# Altium schematic symbol library baseboard.SCHLIB: 43 symbols
Pins are listed as number, name and electrical type; pins without a type are passive.

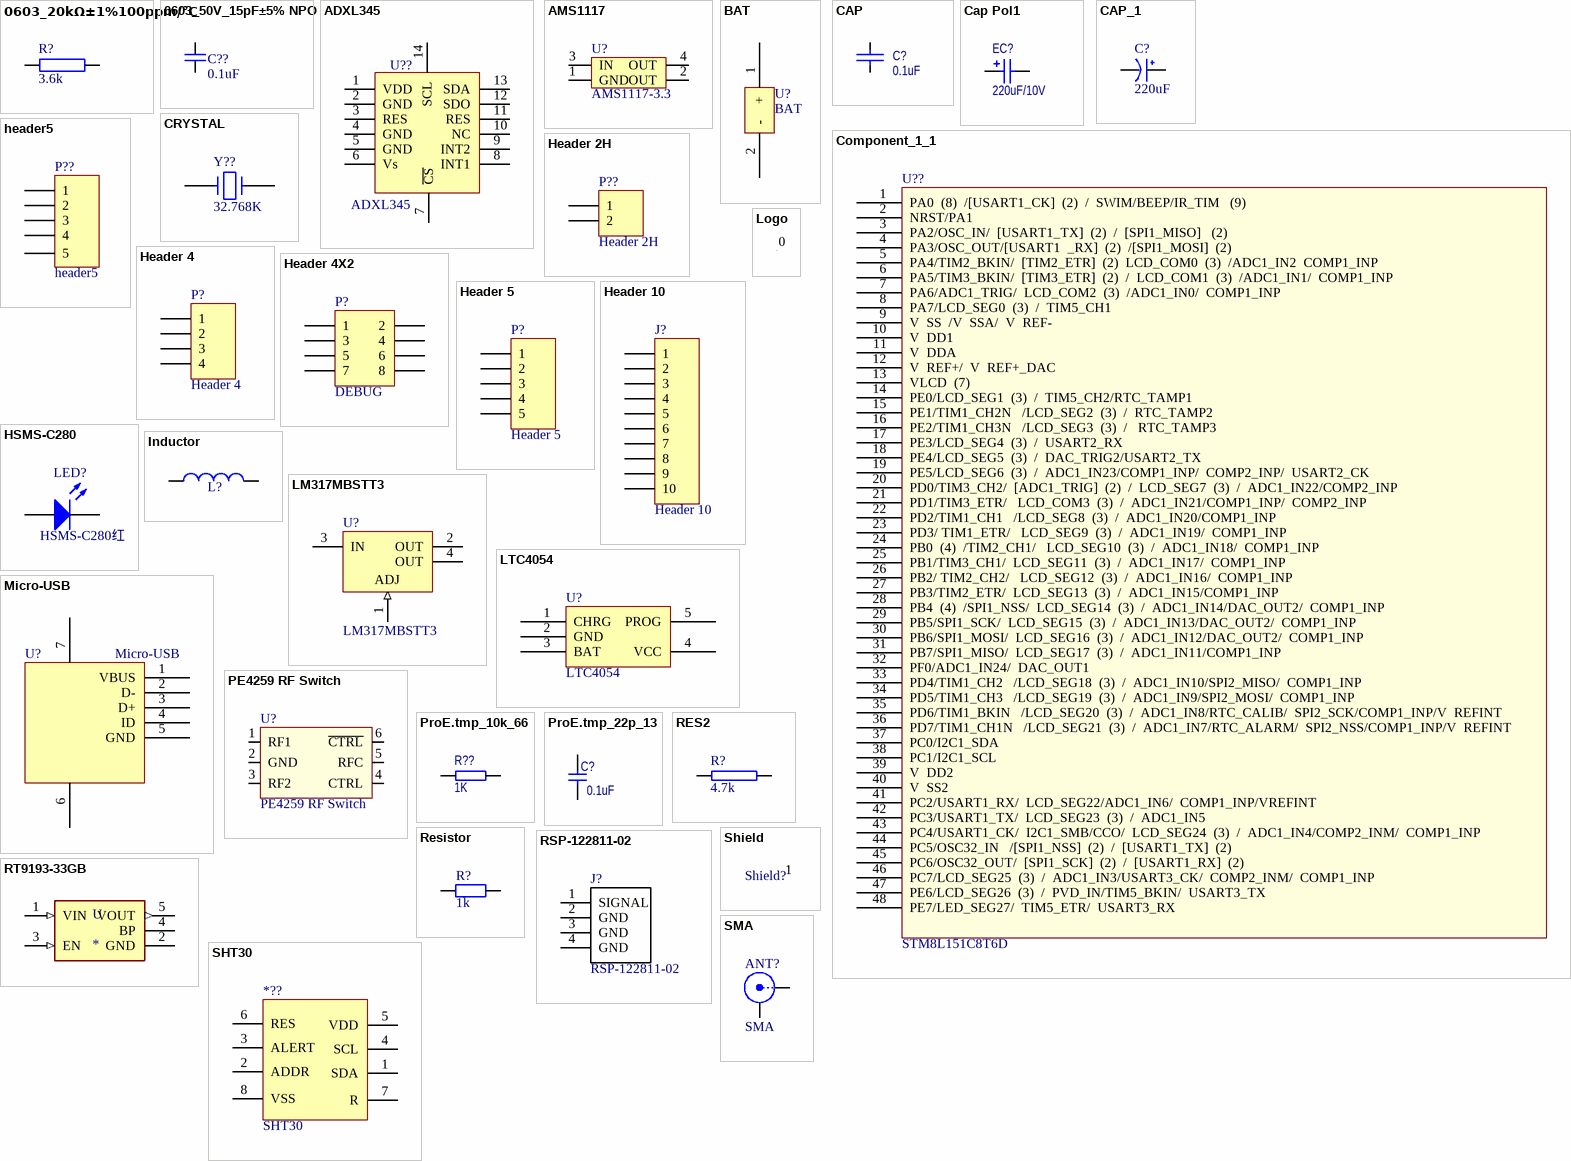
[diagram p0: symbols 0603_20kΩ±1%100ppm/℃ to SMA]

## 0603_20kΩ±1%100ppm/℃
designator R?, comment 3.6k
电阻_贴片; 规格: RC-0603-1/10W-20kΩ±1% 100ppm/℃-YAGEO; 货号: R20321S0; 名称: 贴片电阻; 厂商: YAGEO
footprint 0603
footprint 0603R
pins: 1, 2
2 alternate drawings of the same symbol

## 0603_50V_15pF±5% NPO
designator C??, comment 0.1uF
电容__贴片; 规格: *; 货号: *; 名称: *; 含税单价: *; 厂商: *; 备注: *
footprint 0603_C
footprint 0603C
pins: 1, 2
2 alternate drawings of the same symbol

## ADXL345
designator U??
footprint LGA14
pins: 1 VDD, 2 GND, 3 RES, 4 GND, 5 GND, 6 Vs, 7 ~{CS}, 8 INT1, 9 INT2, 10 NC, 11 RES, 12 SDO, 13 SDA, 14 SCL
2 alternate drawings of the same symbol

## AMS1117
designator U?, comment AMS1117-3.3
footprint AMS1117
pins: 1 GND, 2 OUT, 3 IN, 4 OUT

## BAT
designator U?
footprint 电池
footprint BAT
pins: 1 +, 2 -

## CAP
designator C?, comment 0.1uF
Capacitor
footprint 0603
footprint 0805S
footprint 1206
footprint 0603C
pins: 1, 2
2 alternate drawings of the same symbol

## Cap Pol1
designator EC?, comment 220uF/10V
Polarized Capacitor (Radial); Published: *; Publisher: *; Manufacturer: *; Class: *; SubClass: *
footprint CAP5
footprint 3225[1210] (Chip Resistor; Body 3.2 x 2.5 mm (LxW typ))
footprint HC6X10
pins: 1, 2
2 alternate drawings of the same symbol

## CAP_1
designator C?, comment 220uF
footprint C1206
footprint CAP2.54 (RB.1/.2)
footprint CAP5.08 (RB.2/.4)
footprint CAP7.62 (25V 2200uF)
footprint CAP10.16 (50V10000uF)
footprint CAP10.9 (50V 2200uF)
footprint CAP3.0 (100V 10uF)
footprint CAP8.0 (25V/4700uF)
footprint CAP8.0_2 (50V/4700uF)
footprint C7040 (7MM*4MM)
footprint CC1010 (SMD;W:10mm;L:10mm;)
footprint CC6.56.5
footprint CC88 (SMD;W:8mm;L:8mm;)
pins: 1 VCC, 2 GND

## Component_1_1
designator U??, comment STM8L151C8T6D
footprint LQFP48_L (Thin QFP, 48-Leads, Body 7x7mm, Pitch 0.5mm, IPC High Density)
pins: 1 PA0  (8)  /[USART1_CK]  (2)  /  SWIM/BEEP/IR_TIM   (9), 2 NRST/PA1, 3 PA2/OSC_IN/  [USART1_TX]  (2)  /  [SPI1_MISO]   (2), 4 PA3/OSC_OUT/[USART1  _RX]  (2)  /[SPI1_MOSI]  (2), 5 PA4/TIM2_BKIN/  [TIM2_ETR]  (2)  LCD_COM0  (3)  /ADC1_IN2  COMP1_INP, 6 PA5/TIM3_BKIN/  [TIM3_ETR]  (2)  /  LCD_COM1  (3)  /ADC1_IN1/  COMP1_INP, 7 PA6/ADC1_TRIG/  LCD_COM2  (3)  /ADC1_IN0/  COMP1_INP, 8 PA7/LCD_SEG0  (3)  /  TIM5_CH1, 9 V  SS  /V  SSA/  V  REF-, 10 V  DD1, 11 V  DDA, 12 V  REF+/  V  REF+_DAC, 13 VLCD  (7), 14 PE0/LCD_SEG1  (3)  /  TIM5_CH2/RTC_TAMP1, 15 PE1/TIM1_CH2N   /LCD_SEG2  (3)  /  RTC_TAMP2, 16 PE2/TIM1_CH3N   /LCD_SEG3  (3)  /   RTC_TAMP3, 17 PE3/LCD_SEG4  (3)  /  USART2_RX, 18 PE4/LCD_SEG5  (3)  /  DAC_TRIG2/USART2_TX, 19 PE5/LCD_SEG6  (3)  /  ADC1_IN23/COMP1_INP/  COMP2_INP/  USART2_CK, 20 PD0/TIM3_CH2/  [ADC1_TRIG]  (2)  /  LCD_SEG7  (3)  /  ADC1_IN22/COMP2_INP, 21 PD1/TIM3_ETR/   LCD_COM3  (3)  /  ADC1_IN21/COMP1_INP/  COMP2_INP, 22 PD2/TIM1_CH1   /LCD_SEG8  (3)  /  ADC1_IN20/COMP1_INP, 23 PD3/ TIM1_ETR/   LCD_SEG9  (3)  /  ADC1_IN19/  COMP1_INP, 24 PB0  (4)  /TIM2_CH1/   LCD_SEG10  (3)  /  ADC1_IN18/  COMP1_INP, 25 PB1/TIM3_CH1/  LCD_SEG11  (3)  /  ADC1_IN17/  COMP1_INP, 26 PB2/ TIM2_CH2/   LCD_SEG12  (3)  /  ADC1_IN16/  COMP1_INP, 27 PB3/TIM2_ETR/  LCD_SEG13  (3)  /  ADC1_IN15/COMP1_INP, 28 PB4  (4)  /SPI1_NSS/  LCD_SEG14  (3)  /  ADC1_IN14/DAC_OUT2/  COMP1_INP, 29 PB5/SPI1_SCK/  LCD_SEG15  (3)  /  ADC1_IN13/DAC_OUT2/  COMP1_INP, 30 PB6/SPI1_MOSI/  LCD_SEG16  (3)  /  ADC1_IN12/DAC_OUT2/  COMP1_INP, 31 PB7/SPI1_MISO/  LCD_SEG17  (3)  /  ADC1_IN11/COMP1_INP, 32 PF0/ADC1_IN24/  DAC_OUT1, 33 PD4/TIM1_CH2   /LCD_SEG18  (3)  /  ADC1_IN10/SPI2_MISO/  COMP1_INP, 34 PD5/TIM1_CH3   /LCD_SEG19  (3)  /  ADC1_IN9/SPI2_MOSI/  COMP1_INP, 35 PD6/TIM1_BKIN   /LCD_SEG20  (3)  /  ADC1_IN8/RTC_CALIB/  SPI2_SCK/COMP1_INP/V  REFINT, 36 PD7/TIM1_CH1N   /LCD_SEG21  (3)  /  ADC1_IN7/RTC_ALARM/  SPI2_NSS/COMP1_INP/V  REFINT, 37 PC0/I2C1_SDA, 38 PC1/I2C1_SCL, 39 V  DD2, 40 V  SS2, 41 PC2/USART1_RX/  LCD_SEG22/ADC1_IN6/  COMP1_INP/VREFINT, 42 PC3/USART1_TX/  LCD_SEG23  (3)  /  ADC1_IN5, 43 PC4/USART1_CK/  I2C1_SMB/CCO/  LCD_SEG24  (3)  /  ADC1_IN4/COMP2_INM/  COMP1_INP, 44 PC5/OSC32_IN   /[SPI1_NSS]  (2)  /  [USART1_TX]  (2), 45 PC6/OSC32_OUT/  [SPI1_SCK]  (2)  /  [USART1_RX]  (2), 46 PC7/LCD_SEG25  (3)  /  ADC1_IN3/USART3_CK/  COMP2_INM/  COMP1_INP, 47 PE6/LCD_SEG26  (3)  /  PVD_IN/TIM5_BKIN/  USART3_TX, 48 PE7/LED_SEG27/  TIM5_ETR/  USART3_RX

## CRYSTAL
designator Y??, comment 32.768K
Crystal
footprint FC135
pins: 1, 2

## header5
designator P??
pins: 1, 2, 3, 4, 5

## Header 2H
designator P??
Header, 2-Pin, Right Angle; LatestRevisionDate: 17-Jul-2002; LatestRevisionNote: Re-released for DXP Platform.; Publisher: Altium Limited
footprint SIP2
signal-integrity model Connector
pins: 1, 2

## Header 4
designator P?
Header, 4-Pin; LatestRevisionDate: 17-Jul-2002; LatestRevisionNote: Re-released for DXP Platform.; Publisher: Altium Limited
footprint HDR1X4 (Connector; Header; 4 Position)
signal-integrity model Connector
pins: 1, 2, 3, 4

## Header 4X2
designator P?, comment DEBUG
Header, 4-Pin, Dual row; LatestRevisionDate: 17-Jul-2002; LatestRevisionNote: Re-released for DXP Platform.; Publisher: Altium Limited
footprint HDR-2X7-F-1.27MM_8 (Connector; Header; 10x2 Position)
signal-integrity model Connector
pins: 1, 2, 3, 4, 5, 6, 7, 8

## Header 5
designator P?
Header, 5-Pin; LatestRevisionDate: 17-Jul-2002; LatestRevisionNote: Re-released for DXP Platform.; Publisher: Altium Limited
footprint USB-MINI
signal-integrity model Connector
pins: 1, 2, 3, 4, 5

## Header 10
designator J?
Header, 10-Pin; LatestRevisionDate: 17-Jul-2002; LatestRevisionNote: Re-released for DXP Platform.; Publisher: Altium Limited
footprint HDR1X10 (Connector; Header; 10 Position)
signal-integrity model Connector
footprint HDR1X10_TFT_Display (Connector; Header; 10 Position; Adafruit TFT Display)
pins: 1, 2, 3, 4, 5, 6, 7, 8, 9, 10

## HSMS-C280
designator LED?, comment HSMS-C280红
Miniature Chip LED, Red; LuminousIntensity: 2.5mcd (Minimum).; PCB_Layout: Complies with manufacturer's recommendation.; Published: 11-Dec-2002; DatasheetDocument: 7-Mar-2002; PackageDocument: 07-Mar-2002; PackageReference: 1.0X0.5X0.4; Publisher: Altium Limited; LED_Colour: Red; ComponentLink1Description: Manufacturer Link; ComponentLink1URL: http://www.agilent.com/; ComponentLink2Description: Datasheet; ComponentLink2URL: http://cp.literature.agilent.com/litweb/pdf/5988-5890EN.pdf
footprint LED-SOP
simulation model Agl_HSMSC110 (Diode)
signal-integrity model LED
pins: 1 A, 2 K

## Inductor
designator L?  (value not drawn)
Inductor SMD; Code_IEC: 1005; Value: 0R; Published: 8-Jun-2000; LatestRevisionDate: 05-oct-2007  -  Semtech; LatestRevisionNote: Re-released for DXP Platform.; Publisher: Altium Limited; Code_JEITA: 0402
simulation model INDUCTOR (Inductor)
signal-integrity model Inductor
footprint rlc_402_smd (Chip SMD component 402; Body 1.0 x 0.5 mm (LxW typ))
footprint rlc_201_smd (Chip SMD component 201; Body 0.6 x 0.3 mm (LxW typ))
footprint rlc_603_smd (Chip SMD component 603; Body 1.6 x 0.8mm (LxW typ))
footprint rlc_805_smd (Chip SMD component 805; Body 2.0 x 1.25 mm (LxW typ))
footprint rlc_1206_smd (Chip SMD component 1206; Body 3.2 x 1.6 mm (LxW typ))
footprint rlc_1210_smd (Chip SMD component 1210; Body 3.2 x 2.5 mm (LxW typ))
footprint rlc_1812_smd (Chip SMD component 1812; Body 4.5 x 3.2 mm (LxW typ))
pins: 1, 2

## LM317MBSTT3
designator U?
Three-Terminal Adjustable Output Positive Voltage Regulator; Note: Pin 2 is electrically connected to Pin 4 (TAB); Published: 15-Apr-2002; DatasheetVersion: Nov-1999; PackageVersion: Nov-1999; PackageReference: 318E-04; Publisher: Altium Limited; PackageDescription: SOT-223/SC-73; 4 Leads; Body 6.7 x 7.3 mm, inc. leads (LxW max); ComponentLink1Description: Manufacturer Link; ComponentLink1URL: http://www.onsemi.com/site/products/taxonomy/0,4438,503,00.html; ComponentLink2Description: Datasheet; ComponentLink2URL: http://www.onsemi.com/pub/Collateral/LM317M-D.PDF
footprint 318E-04 (SOT-223/SC-73; 4 Leads; Body 6.7 x 7.3 mm, inc. leads (LxW max))
pins: 1 ADJ (in), 2 OUT (power), 3 IN (power), 4 OUT (power)

## Logo
designator Logo Semtech_?, comment Logo symbol  (value not drawn)
Schematic symbol for Logo
footprint logo_semtech_horiz_size1 (Logo semtech horizontal - size1 - S)
footprint logo_semtech_horiz_size2 (Logo semtech horizontal - size2 - M)
footprint logo_semtech_horiz_size3 (Logo semtech horizontal - size3 - L)
footprint logo_semtech_horiz_size4 (Logo semtech horizontal - size4 - XL)
footprint Logo DC Supply (Logo for DC Supply)
footprint Logo LoRa Size1
footprint Logo LoRa Size2
footprint Logo LoRa Size3
footprint Logo LoRa Size4 (Logo LoRa Size4 - Top Overlay)
footprint Logo CE
footprint logo mbed 1
footprint logo mbed 2
footprint Logo Recycling1
footprint Logo Recycling2
footprint logo_semtech_S (Logo semtech S size4 - XL)
footprint Logo ESD
pins: 0 "Logo"

## LTC4054
designator U?
footprint LTC4054 (SOT23, 5-Leads, Body 2.92x2.80mm, Pitch 0.95mm, IPC Medium Density)
pins: 1 CHRG, 2 GND, 3 BAT, 4 VCC, 5 PROG

## Micro-USB
designator U?
footprint MICRO-USB
footprint MICRO-USB
footprint MICRO-USB - 1
pins: 1 VBUS, 2 D-, 3 D+, 4 ID, 5 GND, 6, 7

## PE4259 RF Switch
designator U?
PE4259 Peregrine RF Switch; LatestRevisionDate: 03-Sep-2012 -  Semtech
footprint SC70-6 (SC70 6-Leads, Body 2.0x1.25mm, Pitch 0.65mm)
pins: 1 RF1, 2 GND, 3 RF2, 4 CTRL, 5 RFC, 6 ~{CTRL}

## ProE.tmp_10k_66
designator R??, comment 1K
footprint 0805
footprint 0603R
footprint 0603S
footprint R0603
pins: 1, 2
2 alternate drawings of the same symbol

## ProE.tmp_22p_13
designator C?, comment 0.1uF
footprint 0805
footprint 0603C
footprint 0603C
footprint 0603c
pins: 1, 2
2 alternate drawings of the same symbol

## RES2
designator R?, comment 4.7k
筿
footprint 0603S
footprint 0805S
footprint 0805
footprint 1206
footprint 0603R
footprint 0603R
pins: 1, 2
2 alternate drawings of the same symbol

## Resistor
designator R?  value 1k  (hidden comment: Resistor)
Resistor SMD - IEC symbol version; LatestRevisionDate: 27-Jul-20  -  Semtech
footprint rlc_201_smd (Chip SMD component 201; Body 0.6 x 0.3 mm (LxW typ))
footprint rlc_402_smd (Chip SMD component 402; Body 1.0 x 0.5 mm (LxW typ))
footprint rlc_603_smd (Chip SMD component 603; Body 1.6 x 0.8mm (LxW typ))
footprint rlc_805_smd (Chip SMD component 805; Body 2.0 x 1.25 mm (LxW typ))
footprint rlc_1206_smd (Chip SMD component 1206; Body 3.2 x 1.6 mm (LxW typ))
footprint 0603R
pins: 1, 2

## RSP-122811-02
designator J?
IPEX; MF: Samtec Inc.; Availability: Warning; Mouser-Purchase-URL: https://snapeda.com/shop?store=Mouser&id=2771725; Arrow_Electronics-Purchase-URL: https://snapeda.com/shop?store=Arrow+Electronics&id=2771725; Package: None; DigiKey-Purchase-URL: https://snapeda.com/shop?store=DigiKey&id=2771725; Price: None; SnapEDA_Link: https://www.snapeda.com/parts/RSP-122811-02/Samtec%20Inc./view-part/2771725/?ref=snap; MP: RSP-122811-02; BuyPart: https://www.snapeda.com/parts/RSP-122811-02/Samtec%20Inc./view-part/2771725/?ref=eda; Value: *
footprint *SAMTEC_RSP-122811-02
pins: 1 SIGNAL (power), 2 GND (power), 3 GND (power), 4 GND (power)

## RT9193-33GB
designator U
Linear Voltage Regulator IC 1 Output 300mA SOT-23-5; MP: RT9193-33GB; MF: Richtek USA; Availability: Unavailable; Package: SOT-23-5 Richtek; SnapEDA_Link: https://www.snapeda.com/parts/RT9193-33GB/Richtek%20USA%20Inc./view-part/55570/?ref=snap; Value: *; Price: None
footprint SOT94P279X129-5N
pins: 1 VIN (in), 2 GND (power), 3 EN (in), 4 BP, 5 VOUT (out)

## Shield
designator Shield?, comment Logo symbol  (value not drawn)
Shield - EMI Gasket - Standard Surface Mount Shields
footprint BMIS-209-F - Shield (BMIS-209-F EMI Gasket - modif SolderMask - Standard Surface Mount Shields -  Laird Technologies)
pins: 1 "Shield"

## SHT30
designator *??
pins: 1 SDA, 2 ADDR, 3 ALERT, 4 SCL, 5 VDD, 6 RES, 7 R, 8 VSS

## SMA
designator ANT?
SMA Straight Connector; LatestRevisionDate: 05-oct-2007  -  Semtech; LatestRevisionNote: Re-released for DXP Platform.; Publisher: Altium Limited
footprint SMA END LAUNCH JACK RECEPTACLE (SMA Connector - End Launch Jack Receptacle)
footprint SMA_end_launch_1.0mm_9.52mm (SMA end launch for 1.0mm PCB thickness; 9.52mm)
footprint SMA END LAUNCH JACK RECEPTACLE SHORT (SMA Connector - End Launch Jack Receptacle - Short)
pins: 1 Signal "RF signal", 2 GND "Ground signal"

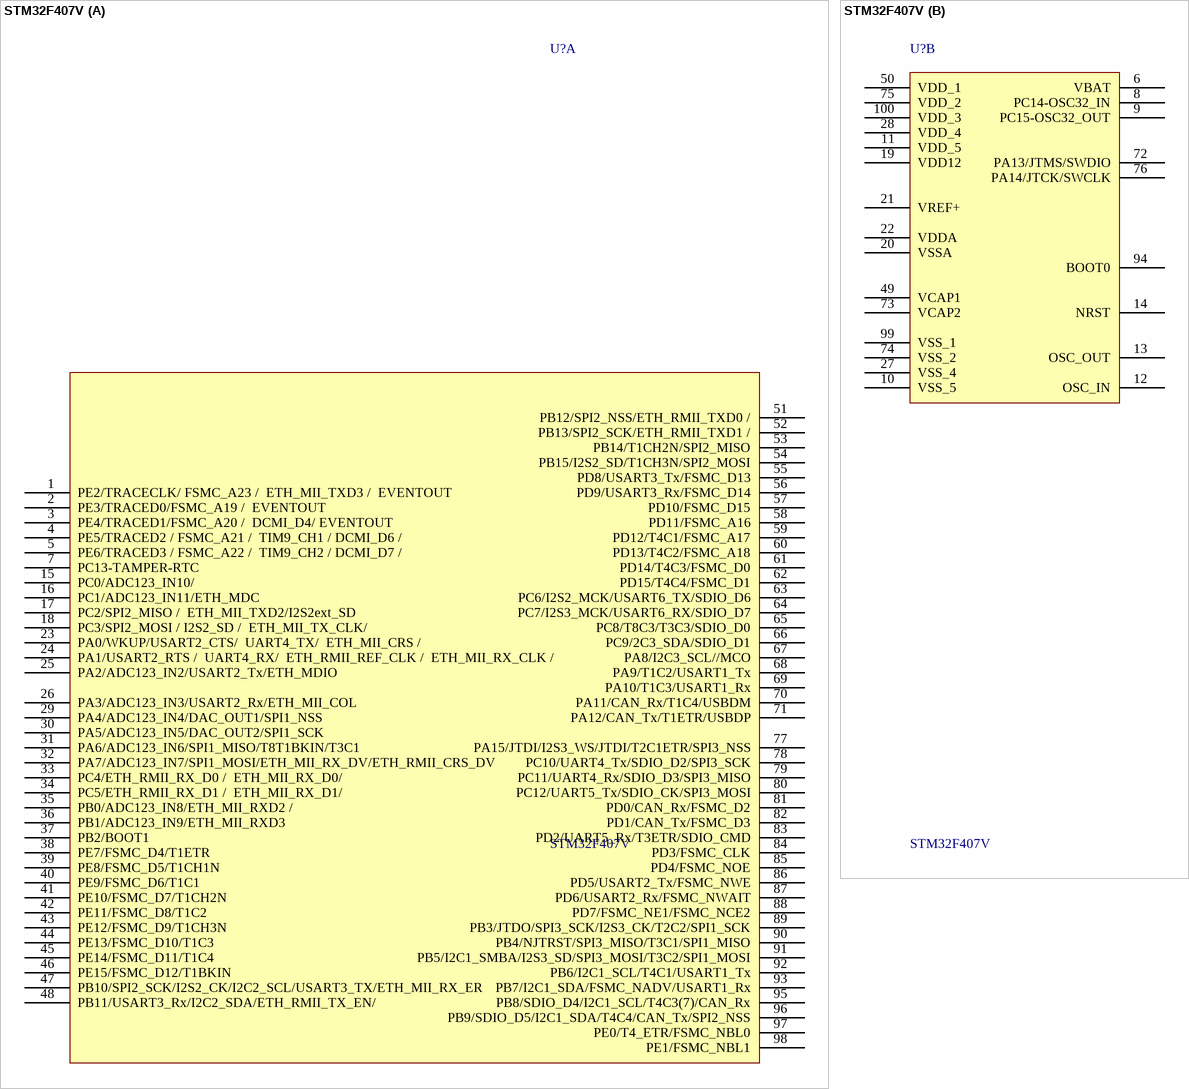
[diagram p1: symbol STM32F407V]

## STM32F407V
designator U?
STM32单片机100引脚
footprint LQFP-100_M (Thin QFP, 100)
part A pins: 1 PE2/TRACECLK/ FSMC_A23 /  ETH_MII_TXD3 /  EVENTOUT, 2 PE3/TRACED0/FSMC_A19 /  EVENTOUT, 3 PE4/TRACED1/FSMC_A20 /  DCMI_D4/ EVENTOUT, 4 PE5/TRACED2 / FSMC_A21 /  TIM9_CH1 / DCMI_D6 /, 5 PE6/TRACED3 / FSMC_A22 /  TIM9_CH2 / DCMI_D7 /, 7 PC13-TAMPER-RTC, 15 PC0/ADC123_IN10/, 16 PC1/ADC123_IN11/ETH_MDC, 17 PC2/SPI2_MISO /  ETH_MII_TXD2/I2S2ext_SD, 18 PC3/SPI2_MOSI / I2S2_SD /  ETH_MII_TX_CLK/, 23 PA0/WKUP/USART2_CTS/  UART4_TX/  ETH_MII_CRS /, 24 PA1/USART2_RTS /  UART4_RX/  ETH_RMII_REF_CLK /  ETH_MII_RX_CLK /, 25 PA2/ADC123_IN2/USART2_Tx/ETH_MDIO, 26 PA3/ADC123_IN3/USART2_Rx/ETH_MII_COL, 29 PA4/ADC123_IN4/DAC_OUT1/SPI1_NSS, 30 PA5/ADC123_IN5/DAC_OUT2/SPI1_SCK, 31 PA6/ADC123_IN6/SPI1_MISO/T8T1BKIN/T3C1, 32 PA7/ADC123_IN7/SPI1_MOSI/ETH_MII_RX_DV/ETH_RMII_CRS_DV, 33 PC4/ETH_RMII_RX_D0 /  ETH_MII_RX_D0/, 34 PC5/ETH_RMII_RX_D1 /  ETH_MII_RX_D1/, 35 PB0/ADC123_IN8/ETH_MII_RXD2 /, 36 PB1/ADC123_IN9/ETH_MII_RXD3, 37 PB2/BOOT1, 38 PE7/FSMC_D4/T1ETR, 39 PE8/FSMC_D5/T1CH1N, 40 PE9/FSMC_D6/T1C1, 41 PE10/FSMC_D7/T1CH2N, 42 PE11/FSMC_D8/T1C2, 43 PE12/FSMC_D9/T1CH3N, 44 PE13/FSMC_D10/T1C3, 45 PE14/FSMC_D11/T1C4, 46 PE15/FSMC_D12/T1BKIN, 47 PB10/SPI2_SCK/I2S2_CK/I2C2_SCL/USART3_TX/ETH_MII_RX_ER, 48 PB11/USART3_Rx/I2C2_SDA/ETH_RMII_TX_EN/, 51 PB12/SPI2_NSS/ETH_RMII_TXD0 /, 52 PB13/SPI2_SCK/ETH_RMII_TXD1 /, 53 PB14/T1CH2N/SPI2_MISO, 54 PB15/I2S2_SD/T1CH3N/SPI2_MOSI, 55 PD8/USART3_Tx/FSMC_D13, 56 PD9/USART3_Rx/FSMC_D14, 57 PD10/FSMC_D15, 58 PD11/FSMC_A16, 59 PD12/T4C1/FSMC_A17, 60 PD13/T4C2/FSMC_A18, 61 PD14/T4C3/FSMC_D0, 62 PD15/T4C4/FSMC_D1, 63 PC6/I2S2_MCK/USART6_TX/SDIO_D6, 64 PC7/I2S3_MCK/USART6_RX/SDIO_D7, 65 PC8/T8C3/T3C3/SDIO_D0, 66 PC9/2C3_SDA/SDIO_D1, 67 PA8/I2C3_SCL//MCO, 68 PA9/T1C2/USART1_Tx, 69 PA10/T1C3/USART1_Rx, 70 PA11/CAN_Rx/T1C4/USBDM, 71 PA12/CAN_Tx/T1ETR/USBDP, 77 PA15/JTDI/I2S3_WS/JTDI/T2C1ETR/SPI3_NSS, 78 PC10/UART4_Tx/SDIO_D2/SPI3_SCK, 79 PC11/UART4_Rx/SDIO_D3/SPI3_MISO, 80 PC12/UART5_Tx/SDIO_CK/SPI3_MOSI, 81 PD0/CAN_Rx/FSMC_D2, 82 PD1/CAN_Tx/FSMC_D3, 83 PD2/UART5_Rx/T3ETR/SDIO_CMD, 84 PD3/FSMC_CLK, 85 PD4/FSMC_NOE, 86 PD5/USART2_Tx/FSMC_NWE, 87 PD6/USART2_Rx/FSMC_NWAIT, 88 PD7/FSMC_NE1/FSMC_NCE2, 89 PB3/JTDO/SPI3_SCK/I2S3_CK/T2C2/SPI1_SCK, 90 PB4/NJTRST/SPI3_MISO/T3C1/SPI1_MISO, 91 PB5/I2C1_SMBA/I2S3_SD/SPI3_MOSI/T3C2/SPI1_MOSI, 92 PB6/I2C1_SCL/T4C1/USART1_Tx, 93 PB7/I2C1_SDA/FSMC_NADV/USART1_Rx, 95 PB8/SDIO_D4/I2C1_SCL/T4C3(7)/CAN_Rx, 96 PB9/SDIO_D5/I2C1_SDA/T4C4/CAN_Tx/SPI2_NSS, 97 PE0/T4_ETR/FSMC_NBL0, 98 PE1/FSMC_NBL1
part B pins: 6 VBAT, 8 PC14-OSC32_IN, 9 PC15-OSC32_OUT, 10 VSS_5, 11 VDD_5, 12 OSC_IN, 13 OSC_OUT, 14 NRST, 19 VDD12, 20 VSSA, 21 VREF+, 22 VDDA, 27 VSS_4, 28 VDD_4, 49 VCAP1, 50 VDD_1, 72 PA13/JTMS/SWDIO, 73 VCAP2, 74 VSS_2, 75 VDD_2, 76 PA14/JTCK/SWCLK, 94 BOOT0, 99 VSS_1, 100 VDD_3

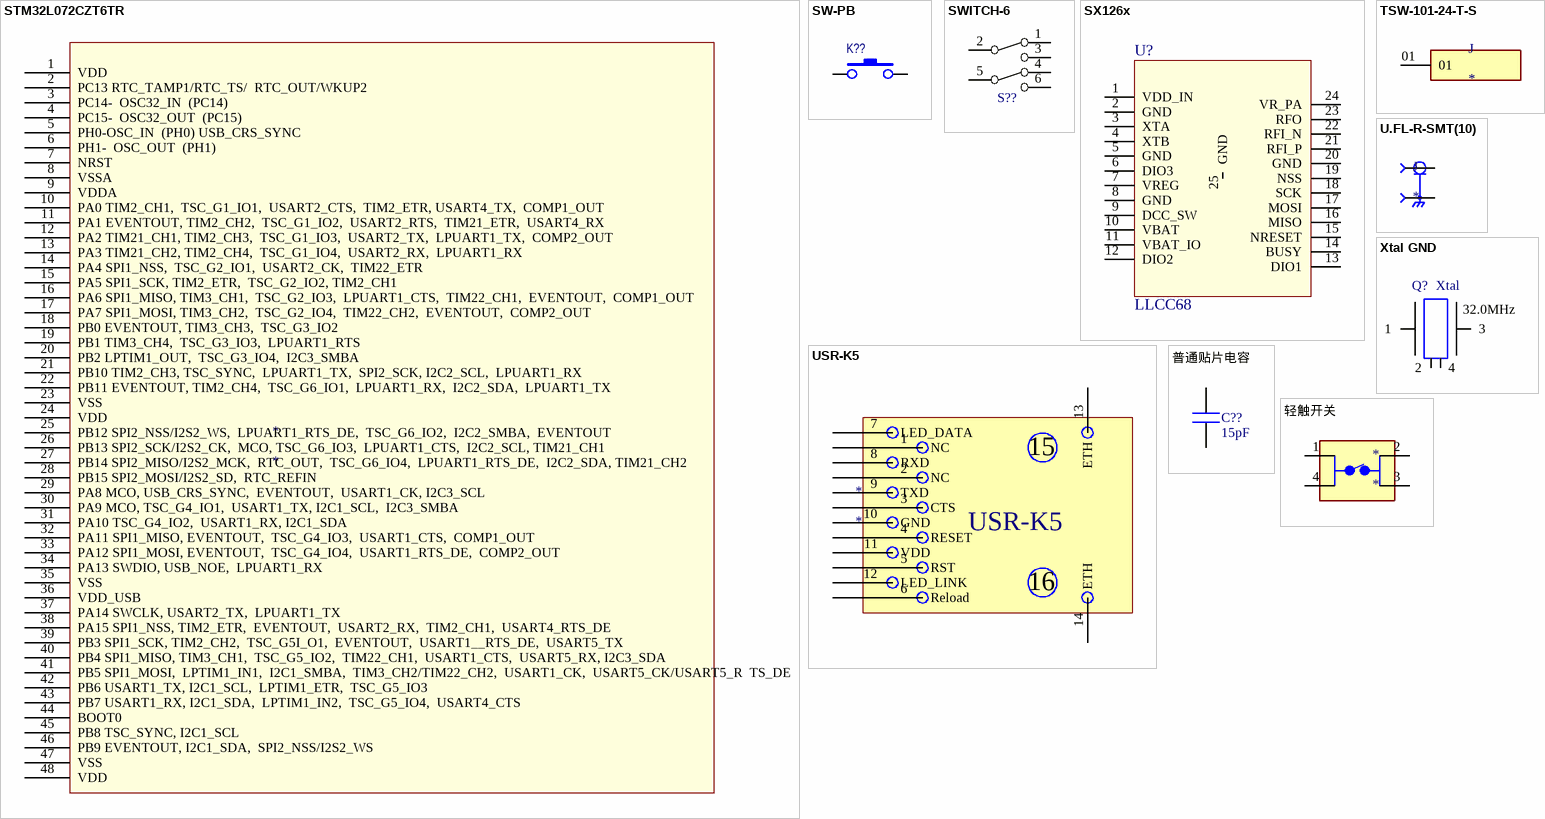
[diagram p2: symbols STM32L072CZT6TR to 轻触开关]

## STM32L072CZT6TR
designator *
pins: 1 VDD, 2 PC13 RTC_TAMP1/RTC_TS/  RTC_OUT/WKUP2, 3 PC14-  OSC32_IN  (PC14), 4 PC15-  OSC32_OUT  (PC15), 5 PH0-OSC_IN  (PH0) USB_CRS_SYNC, 6 PH1-  OSC_OUT  (PH1), 7 NRST, 8 VSSA, 9 VDDA, 10 PA0 TIM2_CH1,  TSC_G1_IO1,  USART2_CTS,  TIM2_ETR, USART4_TX,  COMP1_OUT, 11 PA1 EVENTOUT, TIM2_CH2,  TSC_G1_IO2,  USART2_RTS,  TIM21_ETR,  USART4_RX, 12 PA2 TIM21_CH1, TIM2_CH3,  TSC_G1_IO3,  USART2_TX,  LPUART1_TX,  COMP2_OUT, 13 PA3 TIM21_CH2, TIM2_CH4,  TSC_G1_IO4,  USART2_RX,  LPUART1_RX, 14 PA4 SPI1_NSS,  TSC_G2_IO1,  USART2_CK,  TIM22_ETR, 15 PA5 SPI1_SCK, TIM2_ETR,  TSC_G2_IO2, TIM2_CH1, 16 PA6 SPI1_MISO, TIM3_CH1,  TSC_G2_IO3,  LPUART1_CTS,  TIM22_CH1,  EVENTOUT,  COMP1_OUT, 17 PA7 SPI1_MOSI, TIM3_CH2,  TSC_G2_IO4,  TIM22_CH2,  EVENTOUT,  COMP2_OUT, 18 PB0 EVENTOUT, TIM3_CH3,  TSC_G3_IO2, 19 PB1 TIM3_CH4,  TSC_G3_IO3,  LPUART1_RTS, 20 PB2 LPTIM1_OUT,  TSC_G3_IO4,  I2C3_SMBA, 21 PB10 TIM2_CH3, TSC_SYNC,  LPUART1_TX,  SPI2_SCK, I2C2_SCL,  LPUART1_RX, 22 PB11 EVENTOUT, TIM2_CH4,  TSC_G6_IO1,  LPUART1_RX,  I2C2_SDA,  LPUART1_TX, 23 VSS, 24 VDD, 25 PB12 SPI2_NSS/I2S2_WS,  LPUART1_RTS_DE,  TSC_G6_IO2,  I2C2_SMBA,  EVENTOUT, 26 PB13 SPI2_SCK/I2S2_CK,  MCO, TSC_G6_IO3,  LPUART1_CTS,  I2C2_SCL, TIM21_CH1, 27 PB14 SPI2_MISO/I2S2_MCK,  RTC_OUT,  TSC_G6_IO4,  LPUART1_RTS_DE,  I2C2_SDA, TIM21_CH2, 28 PB15 SPI2_MOSI/I2S2_SD,  RTC_REFIN, 29 PA8 MCO, USB_CRS_SYNC,  EVENTOUT,  USART1_CK, I2C3_SCL, 30 PA9 MCO, TSC_G4_IO1,  USART1_TX, I2C1_SCL,  I2C3_SMBA, 31 PA10 TSC_G4_IO2,  USART1_RX, I2C1_SDA, 32 PA11 SPI1_MISO, EVENTOUT,  TSC_G4_IO3,  USART1_CTS,  COMP1_OUT, 33 PA12 SPI1_MOSI, EVENTOUT,  TSC_G4_IO4,  USART1_RTS_DE,  COMP2_OUT, 34 PA13 SWDIO, USB_NOE,  LPUART1_RX, 35 VSS, 36 VDD_USB, 37 PA14 SWCLK, USART2_TX,  LPUART1_TX, 38 PA15 SPI1_NSS, TIM2_ETR,  EVENTOUT,  USART2_RX,  TIM2_CH1,  USART4_RTS_DE, 39 PB3 SPI1_SCK, TIM2_CH2,  TSC_G5I_O1,  EVENTOUT,  USART1__RTS_DE,  USART5_TX, 40 PB4 SPI1_MISO, TIM3_CH1,  TSC_G5_IO2,  TIM22_CH1,  USART1_CTS,  USART5_RX, I2C3_SDA, 41 PB5 SPI1_MOSI,  LPTIM1_IN1,  I2C1_SMBA,  TIM3_CH2/TIM22_CH2,  USART1_CK,  USART5_CK/USART5_R  TS_DE, 42 PB6 USART1_TX, I2C1_SCL,  LPTIM1_ETR,  TSC_G5_IO3, 43 PB7 USART1_RX, I2C1_SDA,  LPTIM1_IN2,  TSC_G5_IO4,  USART4_CTS, 44 BOOT0, 45 PB8 TSC_SYNC, I2C1_SCL, 46 PB9 EVENTOUT, I2C1_SDA,  SPI2_NSS/I2S2_WS, 47 VSS, 48 VDD

## SW-PB
designator K??
footprint SIP2
footprint SW-PB
footprint SIP2
footprint KEYSMT
pins: 1, 2
2 alternate drawings of the same symbol

## SWITCH-6
designator S??  (value not drawn)
footprint SW-AJ
pins: 1, 2, 3, 4, 5, 6

## SX126x
designator U?, comment LLCC68
SX1262- Ultra low power RF transceiver
footprint vqfn24_4x4mm (24 Leads, Body 4.0x4.0mm, Pitch 0.50mm, VQFN24)
footprint vqfn24_4x4mm (24 Leads, Body 4.0x4.0mm, Pitch 0.50mm, VQFN24)
pins: 1 VDD_IN (power), 2 GND, 3 XTA, 4 XTB, 5 GND, 6 DIO3, 7 VREG (power), 8 GND, 9 DCC_SW (power), 10 VBAT (power), 11 VBAT_IO (power), 12 DIO2, 13 DIO1, 14 BUSY, 15 NRESET, 16 MISO, 17 MOSI, 18 SCK, 19 NSS, 20 GND, 21 RFI_P, 22 RFI_N, 23 RFO, 24 VR_PA (power), 25 GND

## TSW-101-24-T-S
designator J
Connector Header Through Hole 1 position; MP: TSW-101-24-T-S; MF: Samtec; SnapEDA_Link: https://www.snapeda.com/parts/TSW-101-24-T-S/Samtec/view-part/3553989/?ref=snap; Value: *; Price: None; Package: None; Availability: Unavailable
footprint SAMTEC_TSW-101-24-T-S
pins: 01

## U.FL-R-SMT(10)
designator J
U.FL _UMCC_ Connector Receptacle, Male Pin 50Ohm Surface Mount Solder; MP: U.FL-R-SMT_10_; MF: Hirose; Availability: Unavailable; SnapEDA_Link: https://www.snapeda.com/parts/U.FL-R-SMT%2810%29/Hirose%20Electric%20Co%20Ltd/view-part/46852/?ref=snap; Value: *; Price: None; Package: FakePackage u
footprint HRS_U.FL-R-SMT(10)
pins: 1 SIG, 2 GND, 3 GND

## USR-K5
designator *
pins: 1 NC, 2 NC, 3 CTS, 4 RESET, 5 RST, 6 Reload, 7 LED_DATA, 8 RXD, 9 TXD, 10 GND, 11 VDD, 12 LED_LINK, 13 ETH, 14 ETH
text: 15; 16

## Xtal GND
designator Q?, comment Xtal  value 32.0MHz
Crystal with GND pins; LatestRevisionDate: 05-oct-2007  -  Semtech
footprint nd2520da (Crystal SMD 2.5x2.0mm)
footprint nd2016da (Crystal SMD 2.0x1.6mm)
footprint nd3225da (Crystal SMD 3.2x2.5mm)
footprint nd5032da (Crystal SMD 5.0x3.2mm)
footprint nd6035da (Crystal SMD 6.0x3.5mm)
footprint nd7050da - enlarge (Crystal SMD 7.0x5.0mm - Enlarge Pads to be compatible with 3.2x2.5mm footprint)
footprint nd3225da - nd2520da (Crystal SMD 3.2x2.5mm compatible with 2.5x2.0mm)
pins: 1, 2, 3, 4

## 普通贴片电容
designator C??, comment 15pF
Capacitor
footprint C0805
pins: 1, 2

## 轻触开关
designator *
pins: 1, 2, 3, 4